# Altium integrated library TI Data Converters Analog to Digital Converter.IntLib: 2197 symbols (part 32 of 168)
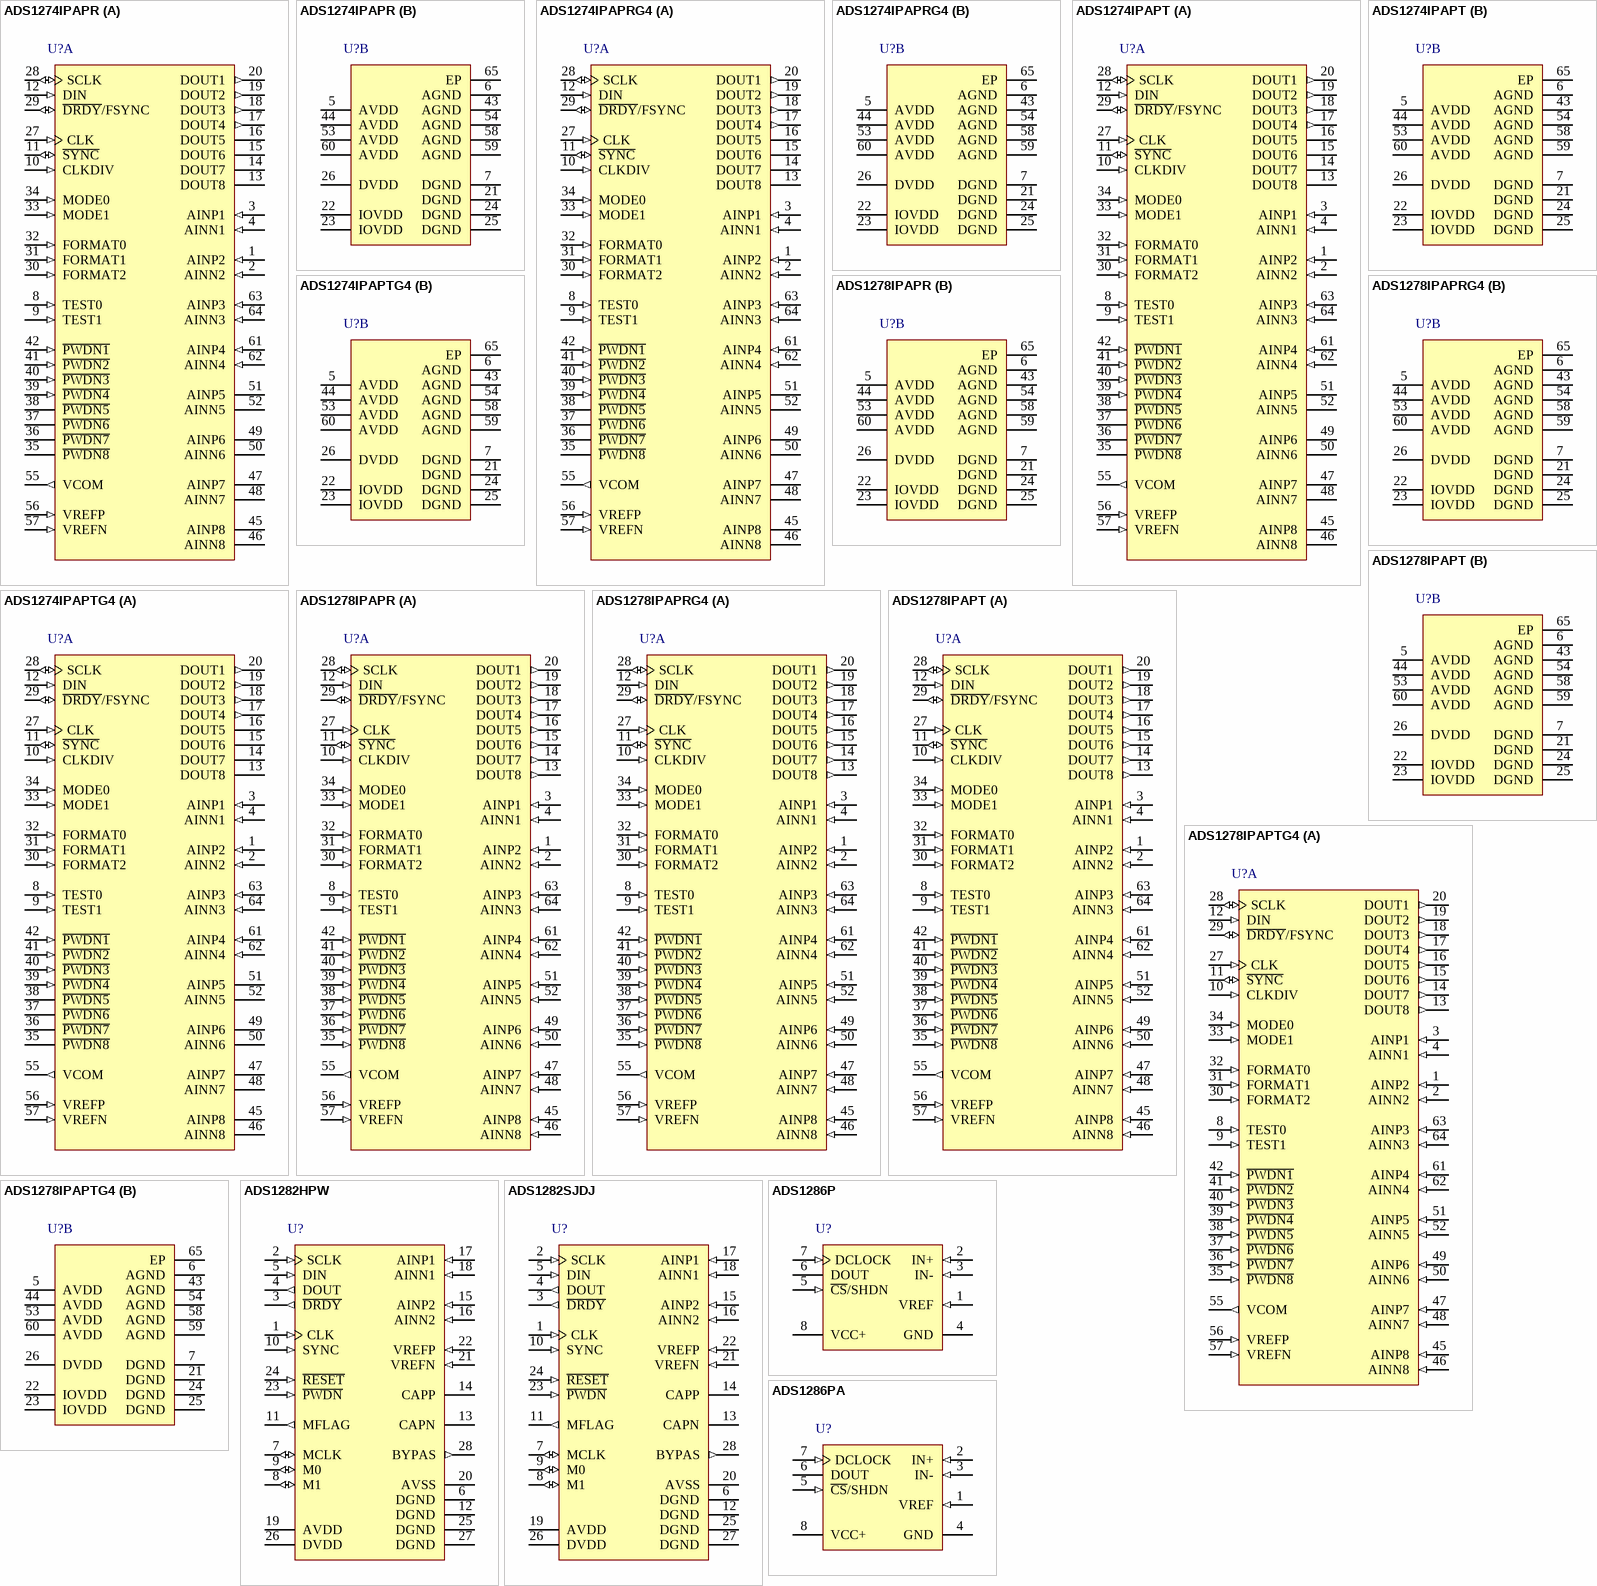
[diagram p157: symbols ADS1274IPAPR to ADS1286PA]

## ADS1278IPAPTG4
designator U?
Octal, Simultaneous Sampling, 24-Bit ADC, -40 to 105 degC, 64-pin PQFP (PAP64), Green (RoHS & no Sb/Br); Manufacturer: Texas Instruments; PartNumber: ADS1278IPAPTG4; # Input Channels: 8; Analog Voltage AV/DD(Max)(V): 5.25; Analog Voltage AV/DD(Min)(V): 4.75; Architecture: Delta-Sigma; Digital Supply(Max)(V): 3.6; Digital Supply(Min)(V): 1.65; Interface: Serial SPI; Resolution(Bits): 24; Sample Rate (max) (SPS): 144k; SNR(dB): 111; SubFamily: Precision ADC (<=10MSPS); DatasheetVersion: SBAS367F; PackageVersion: 4147702/C, 08/2003; PackageReference: PAP64-6495X6495TP; PackageDescription: 64-Pin PowerPAD(TM) Plastic Quad Flatpack, Body 10 x 10 mm, Pitch 0.5 mm; Supplier 1: Digi-Key; Supplier Part Number 1: ADS1278IPAPTG4-ND; Supplier 2: Newark; Supplier Part Number 2: 52M2893; Supplier 3: Mouser; Supplier Part Number 3: 595-ADS1278IPAPTG4; Mounting Technology: Surface Mount; Code_JEDEC: MS-026; ComponentLink1Description: Manufacturer URL; ComponentLink1URL: http://www.ti.com/; ComponentLink2Description: Datasheet; ComponentLink2URL: http://www.ti.com/lit/ds/symlink/ads1274.pdf; ComponentLink3Description: Package Specification; ComponentLink3URL: http://www.ti.com/lit/ml/mpqf071b/mpqf071b.pdf
footprint TI-PAP64-6495X6495TP_N (QFP, 64-Leads, Body 10x10mm, Pitch 0.5mm, Thermal Pad 7x7mm, IPC Medium Density)
footprint TI-PAP64-6495X6495TP_L (QFP, 64-Leads, Body 10x10mm, Pitch 0.5mm, Thermal Pad 7x7mm, IPC High Density)
footprint TI-PAP64-6495X6495TP_M (QFP, 64-Leads, Body 10x10mm, Pitch 0.5mm, Thermal Pad 7x7mm, IPC Low Density)
part A pins: 1 AINP2 (in) "AINP[8:1] Positive analog input, channels 8 through 1.", 2 AINN2 (in) "AINN[8:1] Negative analog input, channels 8 through 1.", 3 AINP1 (in) "AINP[8:1] Positive analog input, channels 8 through 1.", 4 AINN1 (in) "AINN[8:1] Negative analog input, channels 8 through 1.", 8 TEST0 (in) "TEST[1:0] Test mode select: 00 = Normal operation 01 = Do not use 11 = Test mode 10 = Do not use", 9 TEST1 (in) "TEST[1:0] Test mode select: 00 = Normal operation 01 = Do not use 11 = Test mode 10 = Do not use", 10 CLKDIV (in) "CLK input divider control:1 = 37MHz (High-Speed mode)/otherwise 27MHz  0 = 13.5MHz (low-power)/5.4MHz (low-speed)", 11 ~{SYNC} (io) "Synchronize input (all channels).", 12 DIN (in) "Daisy-chain data input.", 13 DOUT8 (out) "DOUT[8:1] Data output for channels 8 through 1.", 14 DOUT7 (out) "DOUT[8:1] Data output for channels 8 through 1.", 15 DOUT6 (out) "DOUT[8:1] Data output for channels 8 through 1.", 16 DOUT5 (out) "DOUT[8:1] Data output for channels 8 through 1.", 17 DOUT4 (out) "DOUT[8:1] Data output for channels 8 through 1.", 18 DOUT3 (out) "DOUT[8:1] Data output for channels 8 through 1.", 19 DOUT2 (out) "DOUT[8:1] Data output for channels 8 through 1.", 20 DOUT1 (out) "DOUT[8:1] Data output for channels 8 through 1.", 27 CLK (in) "Master clock input (fCLK).", 28 SCLK (io) "Serial clock input, Modulator clock output", 29 ~{DRDY}/FSYNC (io) "Frame-Sync protocol: frame clock input; SPI protocol: data ready output.", 30 FORMAT2 (in) "FORMAT[2:0] Selects Frame-Sync/SPI protocol, TDM/discrete data outputs, fixed/dynamic position TDM data, and modulator mode/normal operating mode.", 31 FORMAT1 (in) "FORMAT[2:0] Selects Frame-Sync/SPI protocol, TDM/discrete data outputs, fixed/dynamic position TDM data, and modulator mode/normal operating mode.", 32 FORMAT0 (in) "FORMAT[2:0] Selects Frame-Sync/SPI protocol, TDM/discrete data outputs, fixed/dynamic position TDM data, and modulator mode/normal operating mode.", 33 MODE1 (in) "MODE[1:0] Selects High-Speed, High-Resolution, Low-Power, or Low-Speed mode operation.", 34 MODE0 (in) "MODE[1:0] Selects High-Speed, High-Resolution, Low-Power, or Low-Speed mode operation.", 35 ~{PWDN8} (in) "P\W\D\N\[8:1] Power-down control for channels 8 through 1.", 36 ~{PWDN7} (in) "P\W\D\N\[8:1] Power-down control for channels 8 through 1.", 37 ~{PWDN6} (in) "P\W\D\N\[8:1] Power-down control for channels 8 through 1.", 38 ~{PWDN5} (in) "P\W\D\N\[8:1] Power-down control for channels 8 through 1.", 39 ~{PWDN4} (in) "P\W\D\N\[8:1] Power-down control for channels 8 through 1.", 40 ~{PWDN3} (in) "P\W\D\N\[8:1] Power-down control for channels 8 through 1.", 41 ~{PWDN2} (in) "P\W\D\N\[8:1] Power-down control for channels 8 through 1.", 42 ~{PWDN1} (in) "P\W\D\N\[8:1] Power-down control for channels 8 through 1.", 45 AINP8 (in) "AINP[8:1] Positive analog input, channels 8 through 1.", 46 AINN8 (in) "AINN[8:1] Negative analog input, channels 8 through 1.", 47 AINP7 (in) "AINP[8:1] Positive analog input, channels 8 through 1.", 48 AINN7 (in) "AINN[8:1] Negative analog input, channels 8 through 1.", 49 AINP6 (in) "AINP[8:1] Positive analog input, channels 8 through 1.", 50 AINN6 (in) "AINN[8:1] Negative analog input, channels 8 through 1.", 51 AINP5 (in) "AINP[8:1] Positive analog input, channels 8 through 1.", 52 AINN5 (in) "AINN[8:1] Negative analog input, channels 8 through 1.", 55 VCOM (out) "AVDD/2 Unbuffered voltage output.", 56 VREFP (in) "Positive reference input.", 57 VREFN (in) "Negative reference input.", 61 AINP4 (in) "AINP[8:1] Positive analog input, channels 8 through 1.", 62 AINN4 (in) "AINN[8:1] Negative analog input, channels 8 through 1.", 63 AINP3 (in) "AINP[8:1] Positive analog input, channels 8 through 1.", 64 AINN3 (in) "AINN[8:1] Negative analog input, channels 8 through 1."
part B pins: 5 AVDD (power) "Analog power supply (4.75V to 5.25V).", 6 AGND (power) "Analog ground; connect to DGND using a single plane.", 7 DGND (power) "Digital ground power supply.", 21 DGND (power) "Digital ground power supply.", 22 IOVDD (power) "I/O power supply (+1.65V to +3.6V)", 23 IOVDD (power) "I/O power supply (+1.65V to +3.6V)", 24 DGND (power) "Digital ground power supply.", 25 DGND (power) "Digital ground power supply.", 26 DVDD (power) "Digital core power supply", 43 AGND (power) "Analog ground; connect to DGND using a single plane.", 44 AVDD (power) "Analog power supply (4.75V to 5.25V).", 53 AVDD (power) "Analog power supply (4.75V to 5.25V).", 54 AGND (power) "Analog ground; connect to DGND using a single plane.", 58 AGND (power) "Analog ground; connect to DGND using a single plane.", 59 AGND (power) "Analog ground; connect to DGND using a single plane.", 60 AVDD (power) "Analog power supply (4.75V to 5.25V).", 65 EP

## ADS1282HPW
designator U?
High Temperature Ultra High Resolution Delta Sigma ADC with PGA for Seismic and Energy Exploration, -55 to 175 degC, 28-pin SOP (PW28), Green (RoHS & no Sb/Br); Manufacturer: Texas Instruments; PartNumber: ADS1282HPW; # Input Channels: 2; Analog Voltage AV/DD(Max)(V): 5.25; Analog Voltage AV/DD(Min)(V): 4.75; Architecture: Delta-Sigma; Digital Supply(Max)(V): 3.6; Digital Supply(Min)(V): 1.75; Interface: Serial SPI; Resolution(Bits): 31; Sample Rate (max)(SPS): 4k; SFDR(dB): 123; SNR(dB): 124; SubFamily: Low Power, 8-Bit, Dual 1.5 GSPS or Single 3.0 GSPS A/D Converter; DatasheetVersion: SBAS446F; PackageVersion: 4040064-7/G, 02/2011; PackageReference: PW28; PackageDescription: 28-Pin Plastic Small Outline, Body 9.7 x 4.4 mm, Pitch 0.65 mm; Supplier 1: Digi-Key; Supplier Part Number 1: ADS8505IDWG4-ND; Supplier 2: Mouser; Supplier Part Number 2: 595-ADS8505IDWG4; Eco-Plan: Green (RoHS & no Sb/Br); Mounting Technology: Surface Mount; Code_JEDEC: MO-153; ComponentLink1Description: Manufacturer URL; ComponentLink1URL: http://www.ti.com/; ComponentLink2Description: Datasheet; ComponentLink2URL: http://www.ti.com/general/docs/lit/getliterature.tsp?genericPartNumber=ADS1282-HT&fileType=pdf; ComponentLink3Description: Package Specification; ComponentLink3URL: http://www.ti.com/litv/pdf/mpds364
footprint TI-PW28_N (SOP, 28-Leads, Body 9.7x4.4mm, Pitch 0.65mm, IPC Medium Density)
footprint TI-PW28_L (SOP, 28-Leads, Body 9.7x4.4mm, Pitch 0.65mm, IPC High Density)
footprint TI-PW28_M (SOP, 28-Leads, Body 9.7x4.4mm, Pitch 0.65mm, IPC Low Density)
pins: 1 CLK (in) "Master clock input", 2 SCLK (in) "Serial clock input", 3 ~{DRDY} (out) "Data ready output: read data on falling edge", 4 DOUT (out) "Serial data output", 5 DIN (in) "Serial data input", 6 DGND (power) "Digital ground, pin 12 is the key ground point", 7 MCLK (io) "Modulator clock output; if in modulator mode: MCLK: Modulator clock output Otherwise, the pin is an unused input (must be tied).", 8 M1 (io) "Modulator data output 1; if in modulator mode: M1: Modulator data output 1 Otherwise, the pin is an unused input (must be tied).", 9 M0 (io) "Modulator data output 0; if in modulator mode: M0: Modulator data output 0 Otherwise, the pin is an unused input (must be tied).", 10 SYNC (in) "Synchronize input", 11 MFLAG (out) "Modulator Over-Range flag: 0 = normal, 1 = modulator over-range", 12 DGND (power) "Digital ground, pin 12 is the key ground point", 13 CAPN "PGA outputs: Connect 10-nF capacitor from CAPP to CAPN", 14 CAPP "PGA outputs: Connect 10-nF capacitor from CAPP to CAPN", 15 AINP2 (in) "Positive analog input 2", 16 AINN2 (in) "Negative analog input 2", 17 AINP1 (in) "Positive analog input 1", 18 AINN1 (in) "Negative analog input 1", 19 AVDD (power) "Positive analog power supply", 20 AVSS (power) "Negative analog power supply", 21 VREFN (in) "Negative reference input", 22 VREFP (in) "Positive reference input", 23 ~{PWDN} (in) "Power-down input, active low", 24 ~{RESET} (in) "Reset input, active low", 25 DGND (power) "Digital ground, pin 12 is the key ground point", 26 DVDD (power) "Digital power supply: 1.8 V to 3.3 V", 27 DGND (power) "Digital ground, pin 12 is the key ground point", 28 BYPAS (out) "Sub-regulator output: Connect 1-uF capacitor to DGND"

## ADS1282SJDJ
designator U?
High Temperature Ultra High Resolution Delta Sigma ADC with PGA for Seismic and Energy Exploration, -55 to 210 degC, 28-pin DIP (JDJ28); Manufacturer: Texas Instruments; PartNumber: ADS1282SJDJ; # Input Channels: 2; Analog Voltage AV/DD(Max)(V): 5.25; Analog Voltage AV/DD(Min)(V): 4.75; Architecture: Delta-Sigma; Digital Supply(Max)(V): 3.6; Digital Supply(Min)(V): 1.75; Interface: Serial SPI; Resolution(Bits): 31; Sample Rate (max)(SPS): 4k; SFDR(dB): 123; SNR(dB): 124; SubFamily: Low Power, 8-Bit, Dual 1.5 GSPS or Single 3.0 GSPS A/D Converter; DatasheetVersion: SBAS446F; PackageVersion: 4202646-3/B, 07/2010; PackageReference: JDJ28; PackageDescription: 28-Pin Ceramic, Metal In-Line, Body 35.56 x 7.49 mm, Pitch 2.54 mm; Supplier 1: Digi-Key; Supplier Part Number 1: ADS8505IDWR-ND; Supplier 2: Mouser; Supplier Part Number 2: 595-ADS8505IDWR; Mounting Technology: Through Hole; ComponentLink1Description: Manufacturer URL; ComponentLink1URL: http://www.ti.com/; ComponentLink2Description: Datasheet; ComponentLink2URL: http://www.ti.com/general/docs/lit/getliterature.tsp?genericPartNumber=ADS1282-HT&fileType=pdf; ComponentLink3Description: Package Specification; ComponentLink3URL: http://www.ti.com/lit/ml/mcdi050/mcdi050.pdf
footprint TI-JDJ28 (DIP, 28-Leads, Body 35.56x7.49mm, Pitch 2.54mm)
pins: 1 CLK (in) "Master clock input", 2 SCLK (in) "Serial clock input", 3 ~{DRDY} (out) "Data ready output: read data on falling edge", 4 DOUT (out) "Serial data output", 5 DIN (in) "Serial data input", 6 DGND (power) "Digital ground, pin 12 is the key ground point", 7 MCLK (io) "Modulator clock output; if in modulator mode: MCLK: Modulator clock output Otherwise, the pin is an unused input (must be tied).", 8 M1 (io) "Modulator data output 1; if in modulator mode: M1: Modulator data output 1 Otherwise, the pin is an unused input (must be tied).", 9 M0 (io) "Modulator data output 0; if in modulator mode: M0: Modulator data output 0 Otherwise, the pin is an unused input (must be tied).", 10 SYNC (in) "Synchronize input", 11 MFLAG (out) "Modulator Over-Range flag: 0 = normal, 1 = modulator over-range", 12 DGND (power) "Digital ground, pin 12 is the key ground point", 13 CAPN "PGA outputs: Connect 10-nF capacitor from CAPP to CAPN", 14 CAPP "PGA outputs: Connect 10-nF capacitor from CAPP to CAPN", 15 AINP2 (in) "Positive analog input 2", 16 AINN2 (in) "Negative analog input 2", 17 AINP1 (in) "Positive analog input 1", 18 AINN1 (in) "Negative analog input 1", 19 AVDD (power) "Positive analog power supply", 20 AVSS (power) "Negative analog power supply", 21 VREFN (in) "Negative reference input", 22 VREFP (in) "Positive reference input", 23 ~{PWDN} (in) "Power-down input, active low", 24 ~{RESET} (in) "Reset input, active low", 25 DGND (power) "Digital ground, pin 12 is the key ground point", 26 DVDD (power) "Digital power supply: 1.8 V to 3.3 V", 27 DGND (power) "Digital ground, pin 12 is the key ground point", 28 BYPAS (out) "Sub-regulator output: Connect 1-uF capacitor to DGND"

## ADS1286P
designator U?
12-Bit Micro Power Sampling ADC, -40 to 85 degC, 8-pin DIP (P8), Green (RoHS & no Sb/Br); Manufacturer: Texas Instruments; PartNumber: ADS1286P; # Input Channels: 1; Analog Voltage AV/DD(Max)(V): 5.25; Analog Voltage AV/DD(Min)(V): 4.5; Architecture: SAR; INL(Max)(+/-LSB): 2; Interface: Serial SPI; Resolution(Bits): 12; Sample Rate (max)(SPS): 20k; SFDR(dB): 90; SINAD(dB): 72; SubFamily: Precision ADC (<=10MSPS); DatasheetVersion: SBAS053; PackageVersion: 4040082/E, 04/2010; PackageReference: P8; PackageDescription: 8-Pin Plastic In-Line, Body 9.59 x 6.35 mm, Pitch 2.54 mm; Supplier 1: Digi-Key; Supplier Part Number 1: ADS8505IDWRG4-ND; Supplier 2: Mouser; Supplier Part Number 2: 595-ADS8505IDWRG4; Digital Supply(Max)(V): 5.25; Digital Supply(Min)(V): 4.5; Eco-Plan: Green (RoHS & no Sb/Br); Mounting Technology: Through Hole; Code_JEDEC: MS-001; ComponentLink1Description: Manufacturer URL; ComponentLink1URL: http://www.ti.com/; ComponentLink2Description: Datasheet; ComponentLink2URL: http://www.ti.com/general/docs/lit/getliterature.tsp?genericPartNumber=ADS1286&fileType=pdf; ComponentLink3Description: Package Specification; ComponentLink3URL: http://www.ti.com/litv/pdf/mpdi001b
footprint TI-P8 (DIP, 8-Leads, Body 9.59x6.35mm, Pitch 2.54mm)
pins: 1 VREF (in) "Reference input", 2 IN+ (in) "Noninverting input", 3 IN- (in) "Inverting input. Connect to ground or to remote ground sense point.", 4 GND (power) "Ground", 5 ~{CS}/SHDN (in) "Chip select when low; Shutdown mode when high.", 6 DOUT (hiz) "The serial output data word  is comprised of 12 bits of data. In operation, the data are valid on the falling edge of DCLOCK. The second clock pulse after the falling edge of C\S\ enables the serial output. After one null (See Datasheet)", 7 DCLOCK (in) "Data clock synchronizes the serial data transfer and determines conversion speed.", 8 VCC+ (power) "Power supply"

## ADS1286PA
designator U?
12-Bit Micro Power Sampling ADC, -40 to 85 degC, 8-pin DIP (P8), Green (RoHS & no Sb/Br); Manufacturer: Texas Instruments; PartNumber: ADS1286PA; # Input Channels: 1; Analog Voltage AV/DD(Max)(V): 5.25; Analog Voltage AV/DD(Min)(V): 4.5; Architecture: SAR; INL(Max)(+/-LSB): 2; Interface: Serial SPI; Resolution(Bits): 12; Sample Rate (max)(SPS): 20k; SFDR(dB): 90; SINAD(dB): 72; SubFamily: Precision ADC (<=10MSPS); DatasheetVersion: SBAS053; PackageVersion: 4040082/E, 04/2010; PackageReference: P8; PackageDescription: 8-Pin Plastic In-Line, Body 9.59 x 6.35 mm, Pitch 2.54 mm; Supplier 1: Digi-Key; Supplier Part Number 1: 296-18219-5-ND; Supplier 2: Mouser; Supplier Part Number 2: 595-ADS8504IBDW; Digital Supply(Max)(V): 5.25; Digital Supply(Min)(V): 4.5; Eco-Plan: Green (RoHS & no Sb/Br); Mounting Technology: Through Hole; Code_JEDEC: MS-001; ComponentLink1Description: Manufacturer URL; ComponentLink1URL: http://www.ti.com/; ComponentLink2Description: Datasheet; ComponentLink2URL: http://www.ti.com/general/docs/lit/getliterature.tsp?genericPartNumber=ADS1286&fileType=pdf; ComponentLink3Description: Package Specification; ComponentLink3URL: http://www.ti.com/litv/pdf/mpdi001b
footprint TI-P8 (DIP, 8-Leads, Body 9.59x6.35mm, Pitch 2.54mm)
pins: 1 VREF (in) "Reference input", 2 IN+ (in) "Noninverting input", 3 IN- (in) "Inverting input. Connect to ground or to remote ground sense point.", 4 GND (power) "Ground", 5 ~{CS}/SHDN (in) "Chip select when low; Shutdown mode when high.", 6 DOUT (hiz) "The serial output data word  is comprised of 12 bits of data. In operation, the data are valid on the falling edge of DCLOCK. The second clock pulse after the falling edge of C\S\ enables the serial output. After one null (See Datasheet)", 7 DCLOCK (in) "Data clock synchronizes the serial data transfer and determines conversion speed.", 8 VCC+ (power) "Power supply"

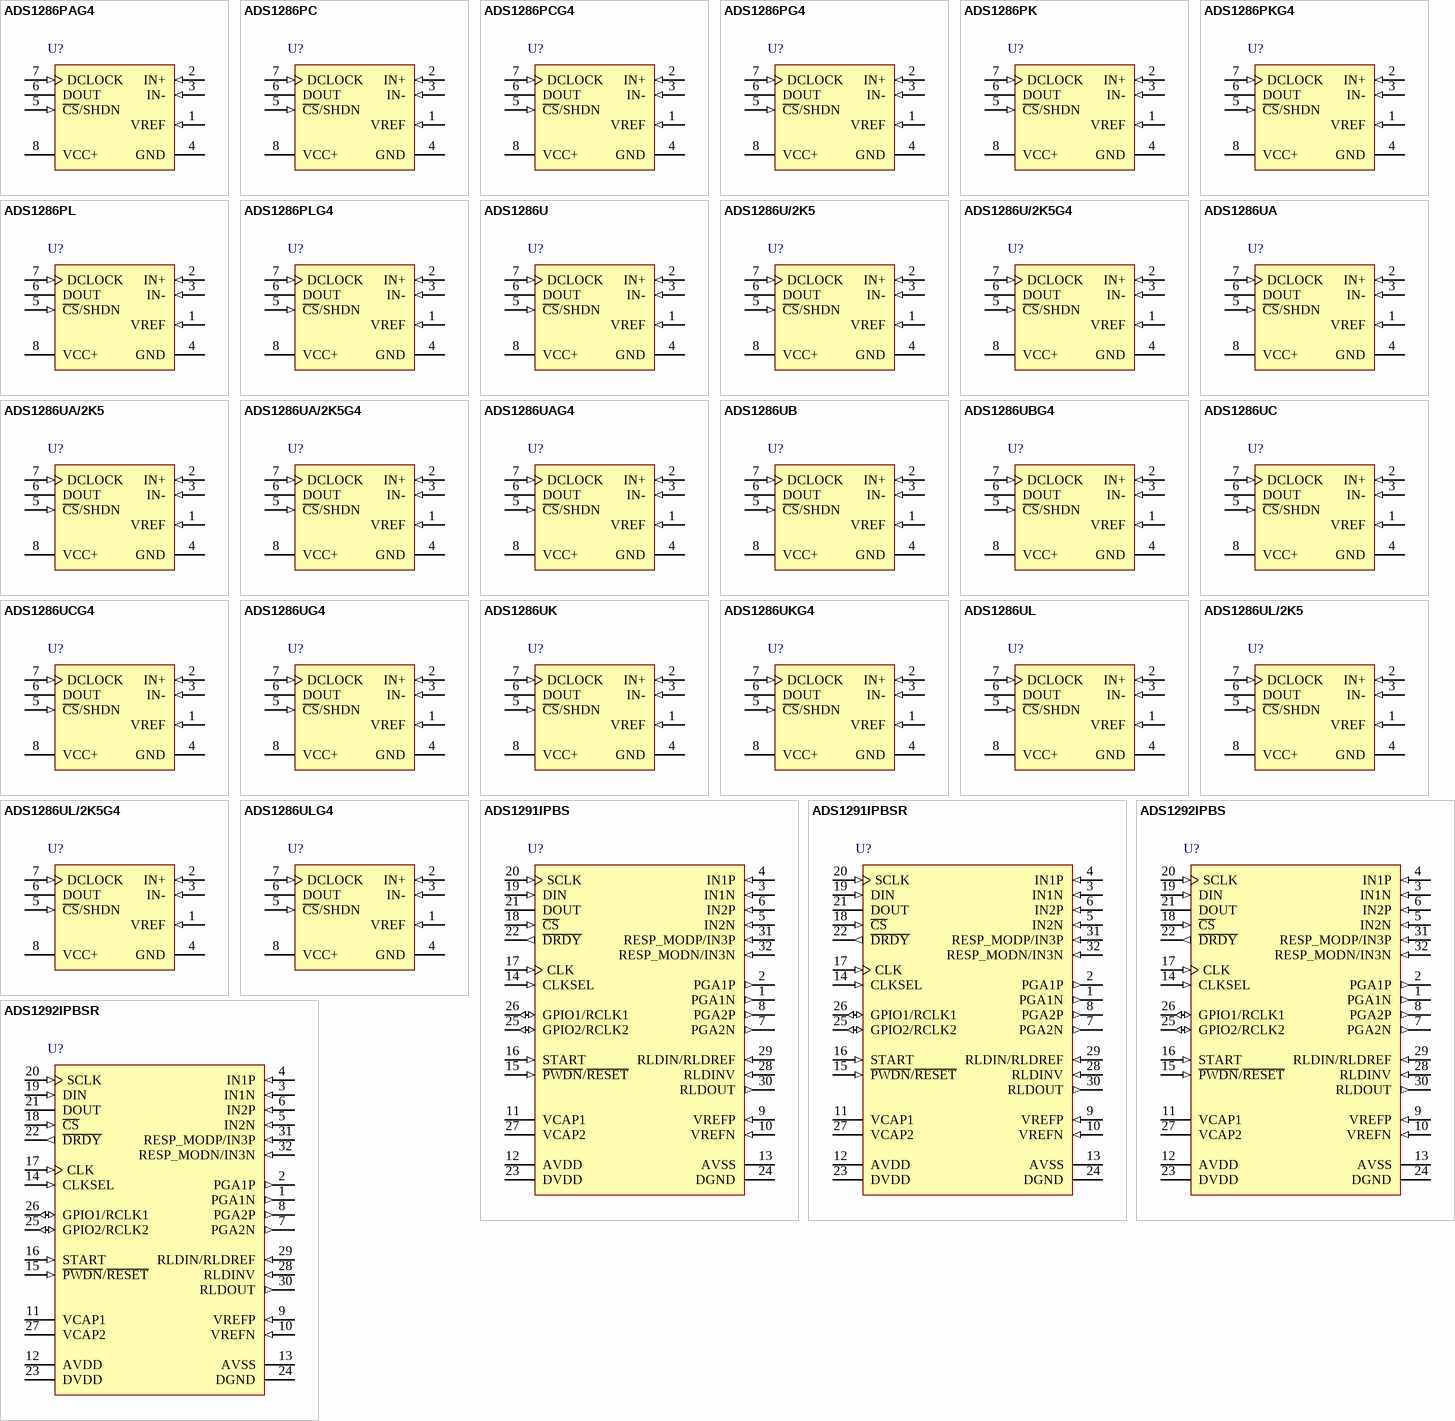
[diagram p25: symbols ADS1286PAG4 to ADS1292IPBSR]

## ADS1286PAG4
designator U?
12-Bit Micro Power Sampling ADC, -40 to 85 degC, 8-pin DIP (P8), Green (RoHS & no Sb/Br); Manufacturer: Texas Instruments; PartNumber: ADS1286PAG4; # Input Channels: 1; Analog Voltage AV/DD(Max)(V): 5.25; Analog Voltage AV/DD(Min)(V): 4.5; Architecture: SAR; INL(Max)(+/-LSB): 2; Interface: Serial SPI; Resolution(Bits): 12; Sample Rate (max)(SPS): 20k; SFDR(dB): 90; SINAD(dB): 72; SubFamily: Precision ADC (<=10MSPS); DatasheetVersion: SBAS053; PackageVersion: 4040082/E, 04/2010; PackageReference: P8; PackageDescription: 8-Pin Plastic In-Line, Body 9.59 x 6.35 mm, Pitch 2.54 mm; Supplier 1: Digi-Key; Supplier Part Number 1: ADS8504IBDWG4-ND; Supplier 2: Mouser; Supplier Part Number 2: 595-ADS8504IBDWG4; Digital Supply(Max)(V): 5.25; Digital Supply(Min)(V): 4.5; Eco-Plan: Green (RoHS & no Sb/Br); Mounting Technology: Through Hole; Code_JEDEC: MS-001; ComponentLink1Description: Manufacturer URL; ComponentLink1URL: http://www.ti.com/; ComponentLink2Description: Datasheet; ComponentLink2URL: http://www.ti.com/general/docs/lit/getliterature.tsp?genericPartNumber=ADS1286&fileType=pdf; ComponentLink3Description: Package Specification; ComponentLink3URL: http://www.ti.com/litv/pdf/mpdi001b
footprint TI-P8 (DIP, 8-Leads, Body 9.59x6.35mm, Pitch 2.54mm)
pins: 1 VREF (in) "Reference input", 2 IN+ (in) "Noninverting input", 3 IN- (in) "Inverting input. Connect to ground or to remote ground sense point.", 4 GND (power) "Ground", 5 ~{CS}/SHDN (in) "Chip select when low; Shutdown mode when high.", 6 DOUT (hiz) "The serial output data word  is comprised of 12 bits of data. In operation, the data are valid on the falling edge of DCLOCK. The second clock pulse after the falling edge of C\S\ enables the serial output. After one null (See Datasheet)", 7 DCLOCK (in) "Data clock synchronizes the serial data transfer and determines conversion speed.", 8 VCC+ (power) "Power supply"

## ADS1286PC
designator U?
12-Bit Micro Power Sampling ADC, -40 to 85 degC, 8-pin DIP (P8), Green (RoHS & no Sb/Br); Manufacturer: Texas Instruments; PartNumber: ADS1286PC; # Input Channels: 1; Analog Voltage AV/DD(Max)(V): 5.25; Analog Voltage AV/DD(Min)(V): 4.5; Architecture: SAR; Interface: Serial SPI; Resolution(Bits): 12; Sample Rate (max)(SPS): 20k; SFDR(dB): 90; SINAD(dB): 72; SubFamily: Precision ADC (<=10MSPS); DatasheetVersion: SBAS053; PackageVersion: 4040082/E, 04/2010; PackageReference: P8; PackageDescription: 8-Pin Plastic In-Line, Body 9.59 x 6.35 mm, Pitch 2.54 mm; Supplier 1: Digi-Key; Supplier Part Number 1: ADS8504IBDWR-ND; Supplier 2: Mouser; Supplier Part Number 2: 595-ADS8504IBDWR; Digital Supply(Max)(V): 5.25; Digital Supply(Min)(V): 4.5; Eco-Plan: Green (RoHS & no Sb/Br); INL(Max)(+/-LSB): 1; Mounting Technology: Through Hole; Code_JEDEC: MS-001; ComponentLink1Description: Manufacturer URL; ComponentLink1URL: http://www.ti.com/; ComponentLink2Description: Datasheet; ComponentLink2URL: http://www.ti.com/general/docs/lit/getliterature.tsp?genericPartNumber=ADS1286&fileType=pdf; ComponentLink3Description: Package Specification; ComponentLink3URL: http://www.ti.com/litv/pdf/mpdi001b
footprint TI-P8 (DIP, 8-Leads, Body 9.59x6.35mm, Pitch 2.54mm)
pins: 1 VREF (in) "Reference input", 2 IN+ (in) "Noninverting input", 3 IN- (in) "Inverting input. Connect to ground or to remote ground sense point.", 4 GND (power) "Ground", 5 ~{CS}/SHDN (in) "Chip select when low; Shutdown mode when high.", 6 DOUT (hiz) "The serial output data word  is comprised of 12 bits of data. In operation, the data are valid on the falling edge of DCLOCK. The second clock pulse after the falling edge of C\S\ enables the serial output. After one null (See Datasheet)", 7 DCLOCK (in) "Data clock synchronizes the serial data transfer and determines conversion speed.", 8 VCC+ (power) "Power supply"

## ADS1286PCG4
designator U?
12-Bit Micro Power Sampling ADC, -40 to 85 degC, 8-pin DIP (P8), Green (RoHS & no Sb/Br); Manufacturer: Texas Instruments; PartNumber: ADS1286PCG4; # Input Channels: 1; Analog Voltage AV/DD(Max)(V): 5.25; Analog Voltage AV/DD(Min)(V): 4.5; Architecture: SAR; Interface: Serial SPI; Resolution(Bits): 12; Sample Rate (max)(SPS): 20k; SFDR(dB): 90; SINAD(dB): 72; SubFamily: Precision ADC (<=10MSPS); DatasheetVersion: SBAS053; PackageVersion: 4040082/E, 04/2010; PackageReference: P8; PackageDescription: 8-Pin Plastic In-Line, Body 9.59 x 6.35 mm, Pitch 2.54 mm; Supplier 1: Digi-Key; Supplier Part Number 1: ADS8504IBDWRG4-ND; Supplier 2: Mouser; Supplier Part Number 2: 595-ADS8504IBDWRG4; Digital Supply(Max)(V): 5.25; Digital Supply(Min)(V): 4.5; Eco-Plan: Green (RoHS & no Sb/Br); INL(Max)(+/-LSB): 1; Mounting Technology: Through Hole; Code_JEDEC: MS-001; ComponentLink1Description: Manufacturer URL; ComponentLink1URL: http://www.ti.com/; ComponentLink2Description: Datasheet; ComponentLink2URL: http://www.ti.com/general/docs/lit/getliterature.tsp?genericPartNumber=ADS1286&fileType=pdf; ComponentLink3Description: Package Specification; ComponentLink3URL: http://www.ti.com/litv/pdf/mpdi001b
footprint TI-P8 (DIP, 8-Leads, Body 9.59x6.35mm, Pitch 2.54mm)
pins: 1 VREF (in) "Reference input", 2 IN+ (in) "Noninverting input", 3 IN- (in) "Inverting input. Connect to ground or to remote ground sense point.", 4 GND (power) "Ground", 5 ~{CS}/SHDN (in) "Chip select when low; Shutdown mode when high.", 6 DOUT (hiz) "The serial output data word  is comprised of 12 bits of data. In operation, the data are valid on the falling edge of DCLOCK. The second clock pulse after the falling edge of C\S\ enables the serial output. After one null (See Datasheet)", 7 DCLOCK (in) "Data clock synchronizes the serial data transfer and determines conversion speed.", 8 VCC+ (power) "Power supply"

## ADS1286PG4
designator U?
12-Bit Micro Power Sampling ADC, -40 to 85 degC, 8-pin DIP (P8), Green (RoHS & no Sb/Br); Manufacturer: Texas Instruments; PartNumber: ADS1286PG4; # Input Channels: 1; Analog Voltage AV/DD(Max)(V): 5.25; Analog Voltage AV/DD(Min)(V): 4.5; Architecture: SAR; INL(Max)(+/-LSB): 2; Interface: Serial SPI; Resolution(Bits): 12; Sample Rate (max)(SPS): 20k; SFDR(dB): 90; SINAD(dB): 72; SubFamily: Precision ADC (<=10MSPS); DatasheetVersion: SBAS053; PackageVersion: 4040082/E, 04/2010; PackageReference: P8; PackageDescription: 8-Pin Plastic In-Line, Body 9.59 x 6.35 mm, Pitch 2.54 mm; Supplier 1: Digi-Key; Supplier Part Number 1: 296-10010-5-ND; Supplier 2: Mouser; Supplier Part Number 2: 595-THS1215IDW; Digital Supply(Max)(V): 5.25; Digital Supply(Min)(V): 4.5; Eco-Plan: Green (RoHS & no Sb/Br); Mounting Technology: Through Hole; Code_JEDEC: MS-001; ComponentLink1Description: Manufacturer URL; ComponentLink1URL: http://www.ti.com/; ComponentLink2Description: Datasheet; ComponentLink2URL: http://www.ti.com/general/docs/lit/getliterature.tsp?genericPartNumber=ADS1286&fileType=pdf; ComponentLink3Description: Package Specification; ComponentLink3URL: http://www.ti.com/litv/pdf/mpdi001b
footprint TI-P8 (DIP, 8-Leads, Body 9.59x6.35mm, Pitch 2.54mm)
pins: 1 VREF (in) "Reference input", 2 IN+ (in) "Noninverting input", 3 IN- (in) "Inverting input. Connect to ground or to remote ground sense point.", 4 GND (power) "Ground", 5 ~{CS}/SHDN (in) "Chip select when low; Shutdown mode when high.", 6 DOUT (hiz) "The serial output data word  is comprised of 12 bits of data. In operation, the data are valid on the falling edge of DCLOCK. The second clock pulse after the falling edge of C\S\ enables the serial output. After one null (See Datasheet)", 7 DCLOCK (in) "Data clock synchronizes the serial data transfer and determines conversion speed.", 8 VCC+ (power) "Power supply"

## ADS1286PK
designator U?
12-Bit Micro Power Sampling ADC, -40 to 85 degC, 8-pin DIP (P8), Green (RoHS & no Sb/Br); Manufacturer: Texas Instruments; PartNumber: ADS1286PK; # Input Channels: 1; Analog Voltage AV/DD(Max)(V): 5.25; Analog Voltage AV/DD(Min)(V): 4.5; Architecture: SAR; INL(Max)(+/-LSB): 2; Interface: Serial SPI; Resolution(Bits): 12; Sample Rate (max)(SPS): 20k; SFDR(dB): 90; SINAD(dB): 72; SubFamily: Precision ADC (<=10MSPS); DatasheetVersion: SBAS053; PackageVersion: 4040082/E, 04/2010; PackageReference: P8; PackageDescription: 8-Pin Plastic In-Line, Body 9.59 x 6.35 mm, Pitch 2.54 mm; Supplier 1: Digi-Key; Supplier Part Number 1: THS1215IDWG4-ND; Supplier 2: Mouser; Supplier Part Number 2: 595-THS1215IDWG4; Digital Supply(Max)(V): 5.25; Digital Supply(Min)(V): 4.5; Eco-Plan: Green (RoHS & no Sb/Br); Mounting Technology: Through Hole; Code_JEDEC: MS-001; ComponentLink1Description: Manufacturer URL; ComponentLink1URL: http://www.ti.com/; ComponentLink2Description: Datasheet; ComponentLink2URL: http://www.ti.com/general/docs/lit/getliterature.tsp?genericPartNumber=ADS1286&fileType=pdf; ComponentLink3Description: Package Specification; ComponentLink3URL: http://www.ti.com/litv/pdf/mpdi001b
footprint TI-P8 (DIP, 8-Leads, Body 9.59x6.35mm, Pitch 2.54mm)
pins: 1 VREF (in) "Reference input", 2 IN+ (in) "Noninverting input", 3 IN- (in) "Inverting input. Connect to ground or to remote ground sense point.", 4 GND (power) "Ground", 5 ~{CS}/SHDN (in) "Chip select when low; Shutdown mode when high.", 6 DOUT (hiz) "The serial output data word  is comprised of 12 bits of data. In operation, the data are valid on the falling edge of DCLOCK. The second clock pulse after the falling edge of C\S\ enables the serial output. After one null (See Datasheet)", 7 DCLOCK (in) "Data clock synchronizes the serial data transfer and determines conversion speed.", 8 VCC+ (power) "Power supply"

## ADS1286PKG4
designator U?
12-Bit Micro Power Sampling ADC, -40 to 85 degC, 8-pin DIP (P8), Green (RoHS & no Sb/Br); Manufacturer: Texas Instruments; PartNumber: ADS1286PKG4; # Input Channels: 1; Analog Voltage AV/DD(Max)(V): 5.25; Analog Voltage AV/DD(Min)(V): 4.5; Architecture: SAR; INL(Max)(+/-LSB): 2; Interface: Serial SPI; Resolution(Bits): 12; Sample Rate (max)(SPS): 20k; SFDR(dB): 90; SINAD(dB): 72; SubFamily: Precision ADC (<=10MSPS); DatasheetVersion: SBAS053; PackageVersion: 4040082/E, 04/2010; PackageReference: P8; PackageDescription: 8-Pin Plastic In-Line, Body 9.59 x 6.35 mm, Pitch 2.54 mm; Supplier 1: Digi-Key; Supplier Part Number 1: 296-2837-5-ND; Supplier 2: Mouser; Supplier Part Number 2: 595-THS1230IDW; Digital Supply(Max)(V): 5.25; Digital Supply(Min)(V): 4.5; Eco-Plan: Green (RoHS & no Sb/Br); Mounting Technology: Through Hole; Code_JEDEC: MS-001; ComponentLink1Description: Manufacturer URL; ComponentLink1URL: http://www.ti.com/; ComponentLink2Description: Datasheet; ComponentLink2URL: http://www.ti.com/general/docs/lit/getliterature.tsp?genericPartNumber=ADS1286&fileType=pdf; ComponentLink3Description: Package Specification; ComponentLink3URL: http://www.ti.com/litv/pdf/mpdi001b
footprint TI-P8 (DIP, 8-Leads, Body 9.59x6.35mm, Pitch 2.54mm)
pins: 1 VREF (in) "Reference input", 2 IN+ (in) "Noninverting input", 3 IN- (in) "Inverting input. Connect to ground or to remote ground sense point.", 4 GND (power) "Ground", 5 ~{CS}/SHDN (in) "Chip select when low; Shutdown mode when high.", 6 DOUT (hiz) "The serial output data word  is comprised of 12 bits of data. In operation, the data are valid on the falling edge of DCLOCK. The second clock pulse after the falling edge of C\S\ enables the serial output. After one null (See Datasheet)", 7 DCLOCK (in) "Data clock synchronizes the serial data transfer and determines conversion speed.", 8 VCC+ (power) "Power supply"

## ADS1286PL
designator U?
12-Bit Micro Power Sampling ADC, -40 to 85 degC, 8-pin DIP (P8), Green (RoHS & no Sb/Br); Manufacturer: Texas Instruments; PartNumber: ADS1286PL; # Input Channels: 1; Analog Voltage AV/DD(Max)(V): 5.25; Analog Voltage AV/DD(Min)(V): 4.5; Architecture: SAR; Interface: Serial SPI; Resolution(Bits): 12; Sample Rate (max)(SPS): 20k; SFDR(dB): 90; SINAD(dB): 72; SubFamily: Precision ADC (<=10MSPS); DatasheetVersion: SBAS053; PackageVersion: 4040082/E, 04/2010; PackageReference: P8; PackageDescription: 8-Pin Plastic In-Line, Body 9.59 x 6.35 mm, Pitch 2.54 mm; Supplier 1: Digi-Key; Supplier Part Number 1: THS1230IDWG4-ND; Supplier 2: Mouser; Supplier Part Number 2: 595-THS1230IDWG4; Digital Supply(Max)(V): 5.25; Digital Supply(Min)(V): 4.5; Eco-Plan: Green (RoHS & no Sb/Br); INL(Max)(+/-LSB): 1; Mounting Technology: Through Hole; Code_JEDEC: MS-001; ComponentLink1Description: Manufacturer URL; ComponentLink1URL: http://www.ti.com/; ComponentLink2Description: Datasheet; ComponentLink2URL: http://www.ti.com/general/docs/lit/getliterature.tsp?genericPartNumber=ADS1286&fileType=pdf; ComponentLink3Description: Package Specification; ComponentLink3URL: http://www.ti.com/litv/pdf/mpdi001b
footprint TI-P8 (DIP, 8-Leads, Body 9.59x6.35mm, Pitch 2.54mm)
pins: 1 VREF (in) "Reference input", 2 IN+ (in) "Noninverting input", 3 IN- (in) "Inverting input. Connect to ground or to remote ground sense point.", 4 GND (power) "Ground", 5 ~{CS}/SHDN (in) "Chip select when low; Shutdown mode when high.", 6 DOUT (hiz) "The serial output data word  is comprised of 12 bits of data. In operation, the data are valid on the falling edge of DCLOCK. The second clock pulse after the falling edge of C\S\ enables the serial output. After one null (See Datasheet)", 7 DCLOCK (in) "Data clock synchronizes the serial data transfer and determines conversion speed.", 8 VCC+ (power) "Power supply"

## ADS1286PLG4
designator U?
12-Bit Micro Power Sampling ADC, -40 to 85 degC, 8-pin DIP (P8), Green (RoHS & no Sb/Br); Manufacturer: Texas Instruments; PartNumber: ADS1286PLG4; # Input Channels: 1; Analog Voltage AV/DD(Max)(V): 5.25; Analog Voltage AV/DD(Min)(V): 4.5; Architecture: SAR; Interface: Serial SPI; Resolution(Bits): 12; Sample Rate (max)(SPS): 20k; SFDR(dB): 90; SINAD(dB): 72; SubFamily: Precision ADC (<=10MSPS); DatasheetVersion: SBAS053; PackageVersion: 4040082/E, 04/2010; PackageReference: P8; PackageDescription: 8-Pin Plastic In-Line, Body 9.59 x 6.35 mm, Pitch 2.54 mm; Supplier 1: Digi-Key; Supplier Part Number 1: 296-2173-5-ND; Supplier 2: Mouser; Supplier Part Number 2: 595-THS1030CDW; Digital Supply(Max)(V): 5.25; Digital Supply(Min)(V): 4.5; Eco-Plan: Green (RoHS & no Sb/Br); INL(Max)(+/-LSB): 1; Mounting Technology: Through Hole; Code_JEDEC: MS-001; ComponentLink1Description: Manufacturer URL; ComponentLink1URL: http://www.ti.com/; ComponentLink2Description: Datasheet; ComponentLink2URL: http://www.ti.com/general/docs/lit/getliterature.tsp?genericPartNumber=ADS1286&fileType=pdf; ComponentLink3Description: Package Specification; ComponentLink3URL: http://www.ti.com/litv/pdf/mpdi001b
footprint TI-P8 (DIP, 8-Leads, Body 9.59x6.35mm, Pitch 2.54mm)
pins: 1 VREF (in) "Reference input", 2 IN+ (in) "Noninverting input", 3 IN- (in) "Inverting input. Connect to ground or to remote ground sense point.", 4 GND (power) "Ground", 5 ~{CS}/SHDN (in) "Chip select when low; Shutdown mode when high.", 6 DOUT (hiz) "The serial output data word  is comprised of 12 bits of data. In operation, the data are valid on the falling edge of DCLOCK. The second clock pulse after the falling edge of C\S\ enables the serial output. After one null (See Datasheet)", 7 DCLOCK (in) "Data clock synchronizes the serial data transfer and determines conversion speed.", 8 VCC+ (power) "Power supply"

## ADS1286U
designator U?
12-Bit Micro Power Sampling ADC, -40 to 85 degC, 8-pin SOIC (D8), Green (RoHS & no Sb/Br); Manufacturer: Texas Instruments; PartNumber: ADS1286U; # Input Channels: 1; Analog Voltage AV/DD(Max)(V): 5.25; Analog Voltage AV/DD(Min)(V): 4.5; Architecture: SAR; INL(Max)(+/-LSB): 2; Interface: Serial SPI; Resolution(Bits): 12; Sample Rate (max)(SPS): 20k; SFDR(dB): 90; SINAD(dB): 72; SubFamily: Precision ADC (<=10MSPS); DatasheetVersion: SBAS053; PackageVersion: 4040047-3/M, 06/2011; PackageReference: D8; PackageDescription: 8-Pin Plastic Small Outline, Body 4.9 x 3.9 mm, Pitch 1.27 mm; Supplier 1: Digi-Key; Supplier Part Number 1: THS1030CDWG4-ND; Supplier 2: Mouser; Supplier Part Number 2: 595-THS1030CDWG4; Digital Supply(Max)(V): 5.25; Digital Supply(Min)(V): 4.5; Eco-Plan: Green (RoHS & no Sb/Br); Mounting Technology: Surface Mount; Code_JEDEC: MS-012; ComponentLink1Description: Manufacturer URL; ComponentLink1URL: http://www.ti.com/; ComponentLink2Description: Datasheet; ComponentLink2URL: http://www.ti.com/general/docs/lit/getliterature.tsp?genericPartNumber=ADS1286&fileType=pdf; ComponentLink3Description: Package Specification; ComponentLink3URL: http://www.ti.com/litv/pdf/msoi002j
footprint TI-D8_N (SOIC, 8-Leads, Body 4.9x3.9mm, Pitch 1.27mm, IPC Medium Density)
footprint TI-D8_L (SOIC, 8-Leads, Body 4.9x3.9mm, Pitch 1.27mm, IPC High Density)
footprint TI-D8_M (SOIC, 8-Leads, Body 4.9x3.9mm, Pitch 1.27mm, IPC Low Density)
pins: 1 VREF (in) "Reference input", 2 IN+ (in) "Noninverting input", 3 IN- (in) "Inverting input. Connect to ground or to remote ground sense point.", 4 GND (power) "Ground", 5 ~{CS}/SHDN (in) "Chip select when low; Shutdown mode when high.", 6 DOUT (hiz) "The serial output data word  is comprised of 12 bits of data. In operation, the data are valid on the falling edge of DCLOCK. The second clock pulse after the falling edge of C\S\ enables the serial output. After one null (See Datasheet)", 7 DCLOCK (in) "Data clock synchronizes the serial data transfer and determines conversion speed.", 8 VCC+ (power) "Power supply"

## ADS1286U/2K5
designator U?
12-Bit Micro Power Sampling ADC, -40 to 85 degC, 8-pin SOIC (D8), Green (RoHS & no Sb/Br); Manufacturer: Texas Instruments; PartNumber: ADS1286U/2K5; # Input Channels: 1; Analog Voltage AV/DD(Max)(V): 5.25; Analog Voltage AV/DD(Min)(V): 4.5; Architecture: SAR; INL(Max)(+/-LSB): 2; Interface: Serial SPI; Resolution(Bits): 12; Sample Rate (max)(SPS): 20k; SFDR(dB): 90; SINAD(dB): 72; SubFamily: Precision ADC (<=10MSPS); DatasheetVersion: SBAS053; PackageVersion: 4040047-3/M, 06/2011; PackageReference: D8; PackageDescription: 8-Pin Plastic Small Outline, Body 4.9 x 3.9 mm, Pitch 1.27 mm; Supplier 1: Digi-Key; Supplier Part Number 1: THS1030CDWR-ND; Supplier 2: Mouser; Supplier Part Number 2: 595-THS1030CDWR; Digital Supply(Max)(V): 5.25; Digital Supply(Min)(V): 4.5; Eco-Plan: Green (RoHS & no Sb/Br); Mounting Technology: Surface Mount; Code_JEDEC: MS-012; ComponentLink1Description: Manufacturer URL; ComponentLink1URL: http://www.ti.com/; ComponentLink2Description: Datasheet; ComponentLink2URL: http://www.ti.com/general/docs/lit/getliterature.tsp?genericPartNumber=ADS1286&fileType=pdf; ComponentLink3Description: Package Specification; ComponentLink3URL: http://www.ti.com/litv/pdf/msoi002j
footprint TI-D8_N (SOIC, 8-Leads, Body 4.9x3.9mm, Pitch 1.27mm, IPC Medium Density)
footprint TI-D8_L (SOIC, 8-Leads, Body 4.9x3.9mm, Pitch 1.27mm, IPC High Density)
footprint TI-D8_M (SOIC, 8-Leads, Body 4.9x3.9mm, Pitch 1.27mm, IPC Low Density)
pins: 1 VREF (in) "Reference input", 2 IN+ (in) "Noninverting input", 3 IN- (in) "Inverting input. Connect to ground or to remote ground sense point.", 4 GND (power) "Ground", 5 ~{CS}/SHDN (in) "Chip select when low; Shutdown mode when high.", 6 DOUT (hiz) "The serial output data word  is comprised of 12 bits of data. In operation, the data are valid on the falling edge of DCLOCK. The second clock pulse after the falling edge of C\S\ enables the serial output. After one null (See Datasheet)", 7 DCLOCK (in) "Data clock synchronizes the serial data transfer and determines conversion speed.", 8 VCC+ (power) "Power supply"

## ADS1286U/2K5G4
designator U?
12-Bit Micro Power Sampling ADC, -40 to 85 degC, 8-pin SOIC (D8), Green (RoHS & no Sb/Br); Manufacturer: Texas Instruments; PartNumber: ADS1286U/2K5G4; # Input Channels: 1; Analog Voltage AV/DD(Max)(V): 5.25; Analog Voltage AV/DD(Min)(V): 4.5; Architecture: SAR; INL(Max)(+/-LSB): 2; Interface: Serial SPI; Resolution(Bits): 12; Sample Rate (max)(SPS): 20k; SFDR(dB): 90; SINAD(dB): 72; SubFamily: Precision ADC (<=10MSPS); DatasheetVersion: SBAS053; PackageVersion: 4040047-3/M, 06/2011; PackageReference: D8; PackageDescription: 8-Pin Plastic Small Outline, Body 4.9 x 3.9 mm, Pitch 1.27 mm; Supplier 1: Digi-Key; Supplier Part Number 1: THS1030CDWRG4-ND; Supplier 2: Mouser; Supplier Part Number 2: 595-THS1030CDWRG4; Digital Supply(Max)(V): 5.25; Digital Supply(Min)(V): 4.5; Eco-Plan: Green (RoHS & no Sb/Br); Mounting Technology: Surface Mount; Code_JEDEC: MS-012; ComponentLink1Description: Manufacturer URL; ComponentLink1URL: http://www.ti.com/; ComponentLink2Description: Datasheet; ComponentLink2URL: http://www.ti.com/general/docs/lit/getliterature.tsp?genericPartNumber=ADS1286&fileType=pdf; ComponentLink3Description: Package Specification; ComponentLink3URL: http://www.ti.com/litv/pdf/msoi002j
footprint TI-D8_N (SOIC, 8-Leads, Body 4.9x3.9mm, Pitch 1.27mm, IPC Medium Density)
footprint TI-D8_L (SOIC, 8-Leads, Body 4.9x3.9mm, Pitch 1.27mm, IPC High Density)
footprint TI-D8_M (SOIC, 8-Leads, Body 4.9x3.9mm, Pitch 1.27mm, IPC Low Density)
pins: 1 VREF (in) "Reference input", 2 IN+ (in) "Noninverting input", 3 IN- (in) "Inverting input. Connect to ground or to remote ground sense point.", 4 GND (power) "Ground", 5 ~{CS}/SHDN (in) "Chip select when low; Shutdown mode when high.", 6 DOUT (hiz) "The serial output data word  is comprised of 12 bits of data. In operation, the data are valid on the falling edge of DCLOCK. The second clock pulse after the falling edge of C\S\ enables the serial output. After one null (See Datasheet)", 7 DCLOCK (in) "Data clock synchronizes the serial data transfer and determines conversion speed.", 8 VCC+ (power) "Power supply"

## ADS1286UA
designator U?
12-Bit Micro Power Sampling ADC, -40 to 85 degC, 8-pin SOIC (D8), Green (RoHS & no Sb/Br); Manufacturer: Texas Instruments; PartNumber: ADS1286UA; # Input Channels: 1; Analog Voltage AV/DD(Max)(V): 5.25; Analog Voltage AV/DD(Min)(V): 4.5; Architecture: SAR; INL(Max)(+/-LSB): 2; Interface: Serial SPI; Resolution(Bits): 12; Sample Rate (max)(SPS): 20k; SFDR(dB): 90; SINAD(dB): 72; SubFamily: Precision ADC (<=10MSPS); DatasheetVersion: SBAS053; PackageVersion: 4040047-3/M, 06/2011; PackageReference: D8; PackageDescription: 8-Pin Plastic Small Outline, Body 4.9 x 3.9 mm, Pitch 1.27 mm; Supplier 1: Digi-Key; Supplier Part Number 1: 296-2826-5-ND; Supplier 2: Mouser; Supplier Part Number 2: 595-THS1030IDW; Digital Supply(Max)(V): 5.25; Digital Supply(Min)(V): 4.5; Eco-Plan: Green (RoHS & no Sb/Br); Mounting Technology: Surface Mount; Code_JEDEC: MS-012; ComponentLink1Description: Manufacturer URL; ComponentLink1URL: http://www.ti.com/; ComponentLink2Description: Datasheet; ComponentLink2URL: http://www.ti.com/general/docs/lit/getliterature.tsp?genericPartNumber=ADS1286&fileType=pdf; ComponentLink3Description: Package Specification; ComponentLink3URL: http://www.ti.com/litv/pdf/msoi002j
footprint TI-D8_N (SOIC, 8-Leads, Body 4.9x3.9mm, Pitch 1.27mm, IPC Medium Density)
footprint TI-D8_L (SOIC, 8-Leads, Body 4.9x3.9mm, Pitch 1.27mm, IPC High Density)
footprint TI-D8_M (SOIC, 8-Leads, Body 4.9x3.9mm, Pitch 1.27mm, IPC Low Density)
pins: 1 VREF (in) "Reference input", 2 IN+ (in) "Noninverting input", 3 IN- (in) "Inverting input. Connect to ground or to remote ground sense point.", 4 GND (power) "Ground", 5 ~{CS}/SHDN (in) "Chip select when low; Shutdown mode when high.", 6 DOUT (hiz) "The serial output data word  is comprised of 12 bits of data. In operation, the data are valid on the falling edge of DCLOCK. The second clock pulse after the falling edge of C\S\ enables the serial output. After one null (See Datasheet)", 7 DCLOCK (in) "Data clock synchronizes the serial data transfer and determines conversion speed.", 8 VCC+ (power) "Power supply"

## ADS1286UA/2K5
designator U?
12-Bit Micro Power Sampling ADC, -40 to 85 degC, 8-pin SOIC (D8), Green (RoHS & no Sb/Br); Manufacturer: Texas Instruments; PartNumber: ADS1286UA/2K5; # Input Channels: 1; Analog Voltage AV/DD(Max)(V): 5.25; Analog Voltage AV/DD(Min)(V): 4.5; Architecture: SAR; INL(Max)(+/-LSB): 2; Interface: Serial SPI; Resolution(Bits): 12; Sample Rate (max)(SPS): 20k; SFDR(dB): 90; SINAD(dB): 72; SubFamily: Precision ADC (<=10MSPS); DatasheetVersion: SBAS053; PackageVersion: 4040047-3/M, 06/2011; PackageReference: D8; PackageDescription: 8-Pin Plastic Small Outline, Body 4.9 x 3.9 mm, Pitch 1.27 mm; Supplier 1: Digi-Key; Supplier Part Number 1: THS1030IDWG4-ND; Supplier 2: Mouser; Supplier Part Number 2: 595-THS1030IDWG4; Digital Supply(Max)(V): 5.25; Digital Supply(Min)(V): 4.5; Eco-Plan: Green (RoHS & no Sb/Br); Mounting Technology: Surface Mount; Code_JEDEC: MS-012; ComponentLink1Description: Manufacturer URL; ComponentLink1URL: http://www.ti.com/; ComponentLink2Description: Datasheet; ComponentLink2URL: http://www.ti.com/general/docs/lit/getliterature.tsp?genericPartNumber=ADS1286&fileType=pdf; ComponentLink3Description: Package Specification; ComponentLink3URL: http://www.ti.com/litv/pdf/msoi002j
footprint TI-D8_N (SOIC, 8-Leads, Body 4.9x3.9mm, Pitch 1.27mm, IPC Medium Density)
footprint TI-D8_L (SOIC, 8-Leads, Body 4.9x3.9mm, Pitch 1.27mm, IPC High Density)
footprint TI-D8_M (SOIC, 8-Leads, Body 4.9x3.9mm, Pitch 1.27mm, IPC Low Density)
pins: 1 VREF (in) "Reference input", 2 IN+ (in) "Noninverting input", 3 IN- (in) "Inverting input. Connect to ground or to remote ground sense point.", 4 GND (power) "Ground", 5 ~{CS}/SHDN (in) "Chip select when low; Shutdown mode when high.", 6 DOUT (hiz) "The serial output data word  is comprised of 12 bits of data. In operation, the data are valid on the falling edge of DCLOCK. The second clock pulse after the falling edge of C\S\ enables the serial output. After one null (See Datasheet)", 7 DCLOCK (in) "Data clock synchronizes the serial data transfer and determines conversion speed.", 8 VCC+ (power) "Power supply"

## ADS1286UA/2K5G4
designator U?
12-Bit Micro Power Sampling ADC, -40 to 85 degC, 8-pin SOIC (D8), Green (RoHS & no Sb/Br); Manufacturer: Texas Instruments; PartNumber: ADS1286UA/2K5G4; # Input Channels: 1; Analog Voltage AV/DD(Max)(V): 5.25; Analog Voltage AV/DD(Min)(V): 4.5; Architecture: SAR; INL(Max)(+/-LSB): 2; Interface: Serial SPI; Resolution(Bits): 12; Sample Rate (max)(SPS): 20k; SFDR(dB): 90; SINAD(dB): 72; SubFamily: Precision ADC (<=10MSPS); DatasheetVersion: SBAS053; PackageVersion: 4040047-3/M, 06/2011; PackageReference: D8; PackageDescription: 8-Pin Plastic Small Outline, Body 4.9 x 3.9 mm, Pitch 1.27 mm; Supplier 1: Digi-Key; Supplier Part Number 1: 296-2174-5-ND; Supplier 2: Mouser; Supplier Part Number 2: 595-THS1031CDW; Digital Supply(Max)(V): 5.25; Digital Supply(Min)(V): 4.5; Eco-Plan: Green (RoHS & no Sb/Br); Mounting Technology: Surface Mount; Code_JEDEC: MS-012; ComponentLink1Description: Manufacturer URL; ComponentLink1URL: http://www.ti.com/; ComponentLink2Description: Datasheet; ComponentLink2URL: http://www.ti.com/general/docs/lit/getliterature.tsp?genericPartNumber=ADS1286&fileType=pdf; ComponentLink3Description: Package Specification; ComponentLink3URL: http://www.ti.com/litv/pdf/msoi002j
footprint TI-D8_N (SOIC, 8-Leads, Body 4.9x3.9mm, Pitch 1.27mm, IPC Medium Density)
footprint TI-D8_L (SOIC, 8-Leads, Body 4.9x3.9mm, Pitch 1.27mm, IPC High Density)
footprint TI-D8_M (SOIC, 8-Leads, Body 4.9x3.9mm, Pitch 1.27mm, IPC Low Density)
pins: 1 VREF (in) "Reference input", 2 IN+ (in) "Noninverting input", 3 IN- (in) "Inverting input. Connect to ground or to remote ground sense point.", 4 GND (power) "Ground", 5 ~{CS}/SHDN (in) "Chip select when low; Shutdown mode when high.", 6 DOUT (hiz) "The serial output data word  is comprised of 12 bits of data. In operation, the data are valid on the falling edge of DCLOCK. The second clock pulse after the falling edge of C\S\ enables the serial output. After one null (See Datasheet)", 7 DCLOCK (in) "Data clock synchronizes the serial data transfer and determines conversion speed.", 8 VCC+ (power) "Power supply"

## ADS1286UAG4
designator U?
12-Bit Micro Power Sampling ADC, -40 to 85 degC, 8-pin SOIC (D8), Green (RoHS & no Sb/Br); Manufacturer: Texas Instruments; PartNumber: ADS1286UAG4; # Input Channels: 1; Analog Voltage AV/DD(Max)(V): 5.25; Analog Voltage AV/DD(Min)(V): 4.5; Architecture: SAR; INL(Max)(+/-LSB): 2; Interface: Serial SPI; Resolution(Bits): 12; Sample Rate (max)(SPS): 20k; SFDR(dB): 90; SINAD(dB): 72; SubFamily: Precision ADC (<=10MSPS); DatasheetVersion: SBAS053; PackageVersion: 4040047-3/M, 06/2011; PackageReference: D8; PackageDescription: 8-Pin Plastic Small Outline, Body 4.9 x 3.9 mm, Pitch 1.27 mm; Supplier 1: Digi-Key; Supplier Part Number 1: THS1031CDWG4-ND; Supplier 2: Mouser; Supplier Part Number 2: 595-THS1031CDWG4; Digital Supply(Max)(V): 5.25; Digital Supply(Min)(V): 4.5; Eco-Plan: Green (RoHS & no Sb/Br); Mounting Technology: Surface Mount; Code_JEDEC: MS-012; ComponentLink1Description: Manufacturer URL; ComponentLink1URL: http://www.ti.com/; ComponentLink2Description: Datasheet; ComponentLink2URL: http://www.ti.com/general/docs/lit/getliterature.tsp?genericPartNumber=ADS1286&fileType=pdf; ComponentLink3Description: Package Specification; ComponentLink3URL: http://www.ti.com/litv/pdf/msoi002j
footprint TI-D8_N (SOIC, 8-Leads, Body 4.9x3.9mm, Pitch 1.27mm, IPC Medium Density)
footprint TI-D8_L (SOIC, 8-Leads, Body 4.9x3.9mm, Pitch 1.27mm, IPC High Density)
footprint TI-D8_M (SOIC, 8-Leads, Body 4.9x3.9mm, Pitch 1.27mm, IPC Low Density)
pins: 1 VREF (in) "Reference input", 2 IN+ (in) "Noninverting input", 3 IN- (in) "Inverting input. Connect to ground or to remote ground sense point.", 4 GND (power) "Ground", 5 ~{CS}/SHDN (in) "Chip select when low; Shutdown mode when high.", 6 DOUT (hiz) "The serial output data word  is comprised of 12 bits of data. In operation, the data are valid on the falling edge of DCLOCK. The second clock pulse after the falling edge of C\S\ enables the serial output. After one null (See Datasheet)", 7 DCLOCK (in) "Data clock synchronizes the serial data transfer and determines conversion speed.", 8 VCC+ (power) "Power supply"

## ADS1286UB
designator U?
12-Bit Micro Power Sampling ADC, -40 to 85 degC, 8-pin SOIC (D8), Green (RoHS & no Sb/Br); Manufacturer: Texas Instruments; PartNumber: ADS1286UB; # Input Channels: 1; Analog Voltage AV/DD(Max)(V): 5.25; Analog Voltage AV/DD(Min)(V): 4.5; Architecture: SAR; INL(Max)(+/-LSB): 2; Interface: Serial SPI; Resolution(Bits): 12; Sample Rate (max)(SPS): 20k; SFDR(dB): 90; SINAD(dB): 72; SubFamily: Precision ADC (<=10MSPS); DatasheetVersion: SBAS053; PackageVersion: 4040047-3/M, 06/2011; PackageReference: D8; PackageDescription: 8-Pin Plastic Small Outline, Body 4.9 x 3.9 mm, Pitch 1.27 mm; Supplier 1: Digi-Key; Supplier Part Number 1: 296-2828-5-ND; Supplier 2: Mouser; Supplier Part Number 2: 595-THS1031IDW; Digital Supply(Max)(V): 5.25; Digital Supply(Min)(V): 4.5; Eco-Plan: Green (RoHS & no Sb/Br); Mounting Technology: Surface Mount; Code_JEDEC: MS-012; ComponentLink1Description: Manufacturer URL; ComponentLink1URL: http://www.ti.com/; ComponentLink2Description: Datasheet; ComponentLink2URL: http://www.ti.com/general/docs/lit/getliterature.tsp?genericPartNumber=ADS1286&fileType=pdf; ComponentLink3Description: Package Specification; ComponentLink3URL: http://www.ti.com/litv/pdf/msoi002j
footprint TI-D8_N (SOIC, 8-Leads, Body 4.9x3.9mm, Pitch 1.27mm, IPC Medium Density)
footprint TI-D8_L (SOIC, 8-Leads, Body 4.9x3.9mm, Pitch 1.27mm, IPC High Density)
footprint TI-D8_M (SOIC, 8-Leads, Body 4.9x3.9mm, Pitch 1.27mm, IPC Low Density)
pins: 1 VREF (in) "Reference input", 2 IN+ (in) "Noninverting input", 3 IN- (in) "Inverting input. Connect to ground or to remote ground sense point.", 4 GND (power) "Ground", 5 ~{CS}/SHDN (in) "Chip select when low; Shutdown mode when high.", 6 DOUT (hiz) "The serial output data word  is comprised of 12 bits of data. In operation, the data are valid on the falling edge of DCLOCK. The second clock pulse after the falling edge of C\S\ enables the serial output. After one null (See Datasheet)", 7 DCLOCK (in) "Data clock synchronizes the serial data transfer and determines conversion speed.", 8 VCC+ (power) "Power supply"